# Altium footprint library CONN_W2B_JST.PcbLib: 168 footprints (part 10 of 11)
Each footprint in its own frame and in the unit in brackets; x right, y up, seen from the top. Pads: shape width x height; smd on the part's side, far side on the other; paste and mask are expansions set on the pad; w line width, h text height; cw(c..) or ccw(c..) is an arc to the next point about the centre after c.
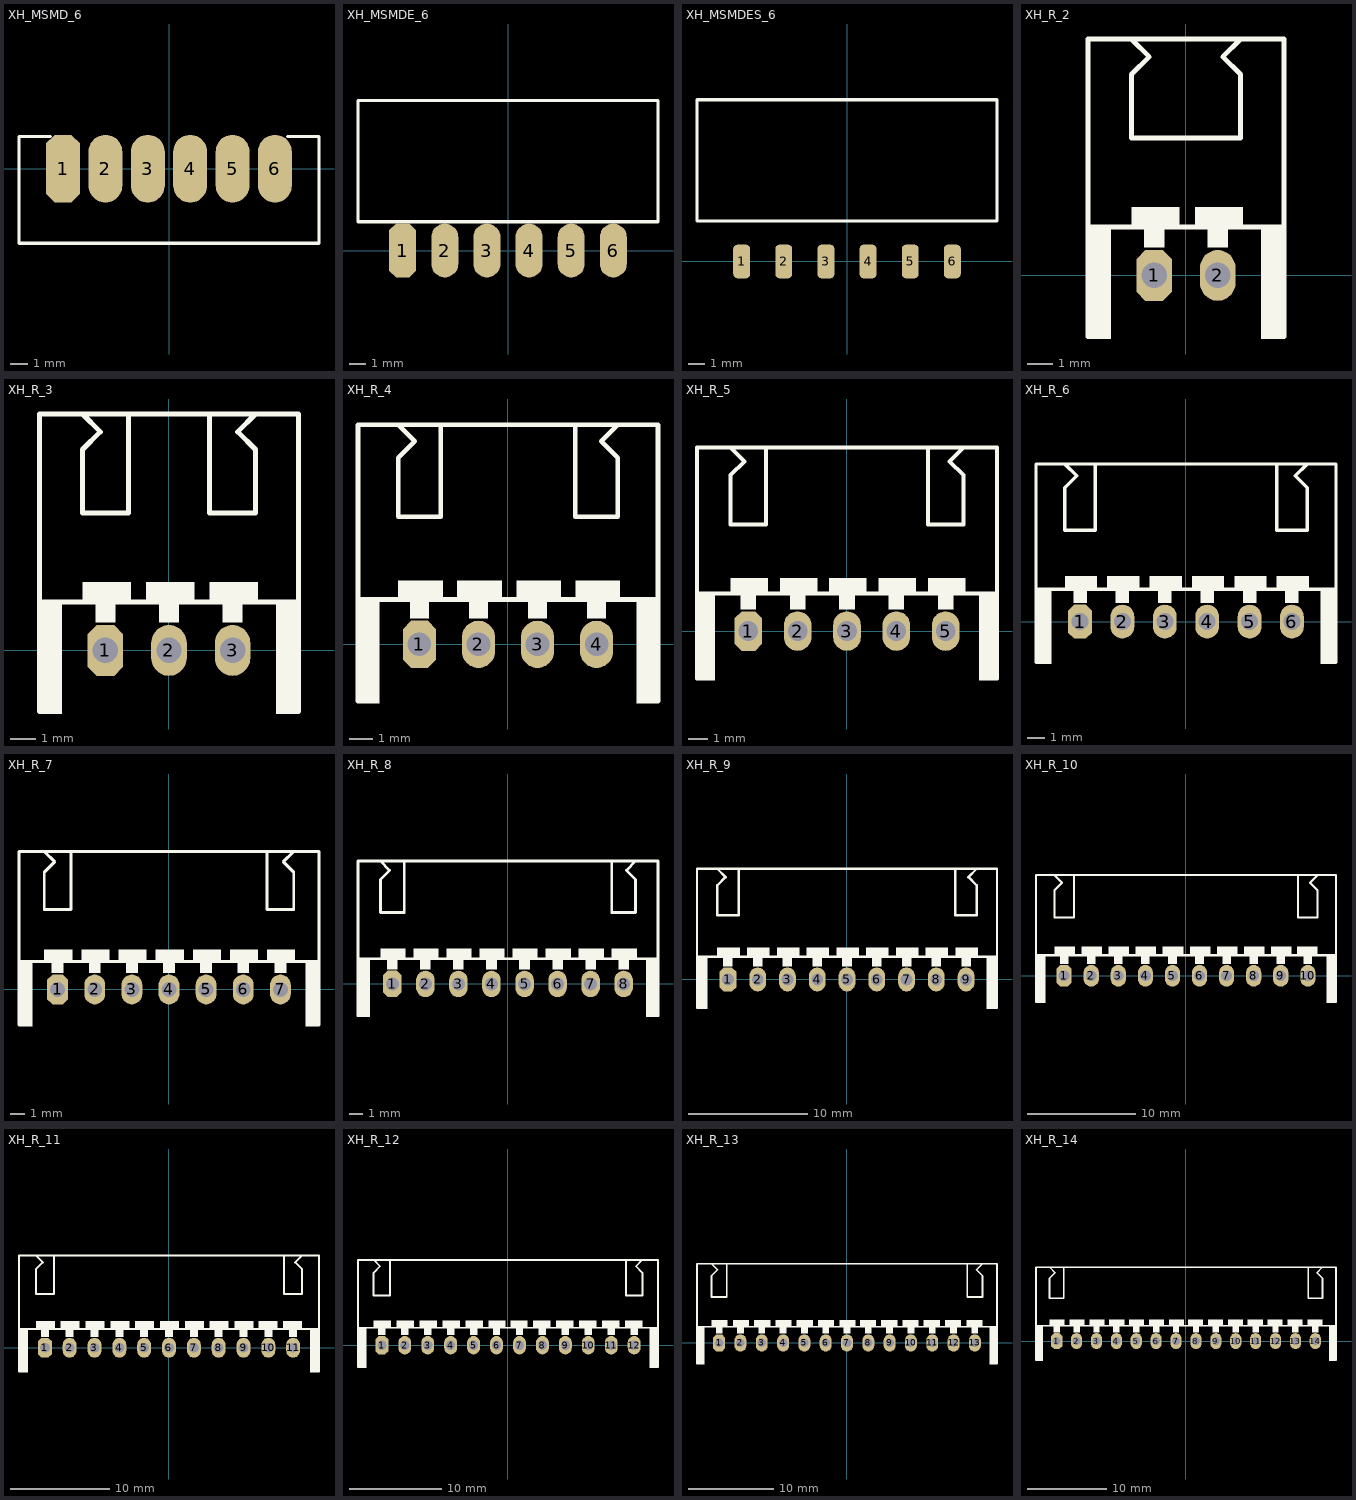
[diagram p9: the footprints below, top view; thin cyan lines are the x and y axes]

## XH_MSMD_6 [mm] "JST-SxB-XH-A pitch: 2.5mm, manual smd!"
pads (6):
  oct 2x4 smd: 1(-6.25,0)
  oval 2x4 smd: 2(-3.75,0) 3(-1.25,0) 4(1.25,0) 5(3.75,0) 6(6.25,0)
Top Overlay:
  lines w0.2: -7,1.9 -8.85,1.9 -8.85,-4.4 8.85,-4.4 8.85,1.9 7,1.9
3D body "S6B-XH-A.STEP": height 9.55, standoff -1.95, extent -8.7,-4.3 8.7,5.25

## XH_MSMDE_6 [mm] "JST-BxB-XH-A pitch: 2.5mm, 3A/250v, manual SMD EDGE !"
pads (6):
  oct 1.6x3.2 smd: 1(-6.25,0)
  oval 1.6x3.2 smd: 2(-3.75,0) 3(-1.25,0) 4(1.25,0) 5(3.75,0) 6(6.25,0)
Top Overlay:
  lines w0.2: -8.9,1.7 -8.9,8.9 8.9,8.9 8.9,1.7 -8.9,1.7
3D body "User Library-PW10-06-M white.step": height 3.7, standoff -2, extent -8.75,-1.5 8.75,8.8

## XH_MSMDES_6 [mm] "JST-BxB-XH-A pitch: 2.5mm, 3A/250v, manual SMD EDGE MOUNT small pads"
pads (6):
  rrect50% 1x2 smd: 1(-6.25,0) 2(-3.75,0) 3(-1.25,0) 4(1.25,0) 5(3.75,0) 6(6.25,0)
Top Overlay:
  lines w0.2: -8.9,2.4 8.9,2.4 8.9,9.6 -8.9,9.6 -8.9,2.4
3D body "User Library-PW10-06-M white.step": height 3.7, standoff -2, extent -8.75,-0.8 8.75,9.5

## XH_R_2 [mm] "JST-SxB-XH-A pitch: 2.5mm, 3A/250v, Righ Angle (Side Entry)"
pads (2):
  oct 1.4x2 hole 1: 1(-1.25,0)
  oval 1.4x2 hole 1: 2(1.25,0)
Top Overlay:
  rectangle: -3.85,-2.5 -2.95,1.9
  region: 3.85,1.9 2.95,1.9 2.95,-2.5 3.85,-2.5
  rectangle: -1.65,1.1 -0.85,1.9
  rectangle: 0.85,1.1 1.65,1.9
  rectangle: -2.15,1.9 -0.25,2.7
  rectangle: 0.35,1.9 2.25,2.7
  lines w0.2: -3.85,-2.4 -3.85,9.3 3.85,9.3 3.85,-2.4 ; -3.85,1.9 3.85,1.9 ; -2.15,9.3 -1.45,8.6 -2.15,7.9 ; 2.15,9.3 1.45,8.6 2.15,7.9 ; -2.15,7.9 -2.15,7.9 ; -2.15,7.9 -2.15,5.4 2.15,5.4 2.15,7.9 ; 2.15,7.9 2.15,7.9
3D body "User Library-S2B-XH.STEP": height 6.1, standoff -3.4, extent -3.7,-2.35 3.7,9.15

## XH_R_3 [mm] "JST-SxB-XH-A pitch: 2.5mm, 3A/250v, Righ Angle (Side Entry)"
pads (3):
  oct 1.4x2 hole 1: 1(-2.5,0)
  oval 1.4x2 hole 1: 2(0,0) 3(2.5,0)
Top Overlay:
  rectangle: 1.6,1.9 3.5,2.7
  rectangle: -0.9,1.9 1,2.7
  rectangle: -3.4,1.9 -1.5,2.7
  rectangle: 2.1,1.1 2.9,1.9
  rectangle: -0.4,1.1 0.4,1.9
  rectangle: -2.9,1.1 -2.1,1.9
  region: 5.1,1.9 4.2,1.9 4.2,-2.5 5.1,-2.5
  rectangle: -5.1,-2.5 -4.2,1.9
  lines w0.2: -5.1,-2.4 -5.1,9.3 5.1,9.3 5.1,-2.4 ; -5.1,1.9 5.1,1.9 ; -3.4,9.3 -2.7,8.6 -3.4,7.9 ; -1.6,9.3 -1.6,5.4 -3.4,5.4 -3.4,7.9 ; 1.6,9.3 1.6,5.4 3.4,5.4 3.4,7.9 ; 3.4,9.3 2.7,8.6 3.4,7.9 ; -3.4,7.9 -3.4,7.9 ; 3.4,7.9 3.4,7.9
3D body "User Library-S3B-XH.STEP": height 6.1, standoff -3.4, extent -4.95,-2.3 4.95,9.2

## XH_R_4 [mm] "JST-SxB-XH-A pitch: 2.5mm, 3A/250v, Righ Angle (Side Entry)"
pads (4):
  oct 1.4x2 hole 1: 1(-3.75,0)
  oval 1.4x2 hole 1: 2(-1.25,0) 3(1.25,0) 4(3.75,0)
Top Overlay:
  rectangle: -6.35,-2.5 -5.45,1.9
  region: 6.35,1.9 5.45,1.9 5.45,-2.5 6.35,-2.5
  rectangle: -4.15,1.1 -3.35,1.9
  rectangle: -1.65,1.1 -0.85,1.9
  rectangle: 0.85,1.1 1.65,1.9
  rectangle: 3.35,1.1 4.15,1.9
  rectangle: -4.65,1.9 -2.75,2.7
  rectangle: -2.15,1.9 -0.25,2.7
  rectangle: 0.35,1.9 2.25,2.7
  rectangle: 2.85,1.9 4.75,2.7
  lines w0.2: -6.35,-2.4 -6.35,9.3 6.35,9.3 6.35,-2.4 ; -6.35,1.9 6.35,1.9 ; -4.65,9.3 -3.95,8.6 -4.65,7.9 ; -2.85,9.3 -2.85,5.4 -4.65,5.4 -4.65,7.9 ; 2.85,9.3 2.85,5.4 4.65,5.4 4.65,7.9 ; 4.65,9.3 3.95,8.6 4.65,7.9 ; -4.65,7.9 -4.65,7.9 ; 4.65,7.9 4.65,7.9
3D body "User Library-S4B-XH.STEP": height 6.1, standoff -3.4, extent -6.2,-2.3 6.2,9.2

## XH_R_5 [mm] "JST-SxB-XH-A pitch: 2.5mm, 3A/250v, Righ Angle (Side Entry)"
pads (5):
  oct 1.4x2 hole 1: 1(-5,0)
  oval 1.4x2 hole 1: 2(-2.5,0) 3(0,0) 4(2.5,0) 5(5,0)
Top Overlay:
  rectangle: 4.1,1.9 6,2.7
  rectangle: 1.6,1.9 3.5,2.7
  rectangle: -0.9,1.9 1,2.7
  rectangle: -3.4,1.9 -1.5,2.7
  rectangle: -5.9,1.9 -4,2.7
  rectangle: 4.6,1.1 5.4,1.9
  rectangle: 2.1,1.1 2.9,1.9
  rectangle: -0.4,1.1 0.4,1.9
  rectangle: -2.9,1.1 -2.1,1.9
  rectangle: -5.4,1.1 -4.6,1.9
  region: 7.6,1.9 6.7,1.9 6.7,-2.5 7.6,-2.5
  rectangle: -7.6,-2.5 -6.7,1.9
  lines w0.2: -7.6,-2.4 -7.6,9.3 7.6,9.3 7.6,-2.4 ; -7.6,1.9 7.6,1.9 ; -5.9,9.3 -5.2,8.6 -5.9,7.9 ; -4.1,9.3 -4.1,5.4 -5.9,5.4 -5.9,7.9 ; 4.1,9.3 4.1,5.4 5.9,5.4 5.9,7.9 ; 5.9,9.3 5.2,8.6 5.9,7.9 ; -5.9,7.9 -5.9,7.9 ; 5.9,7.9 5.9,7.9
3D body "User Library-jst-s5b-xh-a.step": height 6.25, standoff -3.25, extent -7.45,-2.3 7.45,9.2

## XH_R_6 [mm] "JST-SxB-XH-A pitch: 2.5mm, 3A/250v, Righ Angle (Side Entry)"
pads (6):
  oct 1.4x2 hole 1: 1(-6.25,0)
  oval 1.4x2 hole 1: 2(-3.75,0) 3(-1.25,0) 4(1.25,0) 5(3.75,0) 6(6.25,0)
Top Overlay:
  rectangle: 5.85,1.1 6.65,1.9
  rectangle: 5.35,1.9 7.25,2.7
  rectangle: 2.85,1.9 4.75,2.7
  rectangle: 0.35,1.9 2.25,2.7
  rectangle: -2.15,1.9 -0.25,2.7
  rectangle: -4.65,1.9 -2.75,2.7
  rectangle: -7.15,1.9 -5.25,2.7
  rectangle: 3.35,1.1 4.15,1.9
  rectangle: 0.85,1.1 1.65,1.9
  rectangle: -1.65,1.1 -0.85,1.9
  rectangle: -4.15,1.1 -3.35,1.9
  rectangle: -6.65,1.1 -5.85,1.9
  region: 8.85,1.9 7.95,1.9 7.95,-2.5 8.85,-2.5
  rectangle: -8.85,-2.5 -7.95,1.9
  lines w0.2: -8.85,-2.4 -8.85,9.3 8.85,9.3 8.85,-2.4 ; -8.85,1.9 8.85,1.9 ; -7.15,9.3 -6.45,8.6 -7.15,7.9 ; -5.35,9.3 -5.35,5.4 -7.15,5.4 -7.15,7.9 ; 5.35,9.3 5.35,5.4 7.15,5.4 7.15,7.9 ; 7.15,9.3 6.45,8.6 7.15,7.9 ; -7.15,7.9 -7.15,7.9 ; 7.15,7.9 7.15,7.9
3D body "S6B-XH-A.STEP": height 6.15, standoff -3.4, extent -8.7,-2.3 8.7,9.2

## XH_R_7 [mm] "JST-SxB-XH-A pitch: 2.5mm, 3A/250v, Righ Angle (Side Entry)"
pads (7):
  oct 1.4x2 hole 1: 1(-7.5,0)
  oval 1.4x2 hole 1: 2(-5,0) 3(-2.5,0) 4(0,0) 5(2.5,0) 6(5,0) 7(7.5,0)
Top Overlay:
  rectangle: 7.1,1.1 7.9,1.9
  rectangle: 6.6,1.9 8.5,2.7
  region: 10.1,1.9 9.2,1.9 9.2,-2.5 10.1,-2.5
  rectangle: -10.1,-2.5 -9.2,1.9
  rectangle: -7.9,1.1 -7.1,1.9
  rectangle: -5.4,1.1 -4.6,1.9
  rectangle: -2.9,1.1 -2.1,1.9
  rectangle: -0.4,1.1 0.4,1.9
  rectangle: 2.1,1.1 2.9,1.9
  rectangle: -8.4,1.9 -6.5,2.7
  rectangle: -5.9,1.9 -4,2.7
  rectangle: -3.4,1.9 -1.5,2.7
  rectangle: -0.9,1.9 1,2.7
  rectangle: 1.6,1.9 3.5,2.7
  rectangle: 4.1,1.9 6,2.7
  rectangle: 4.6,1.1 5.4,1.9
  lines w0.2: -10.1,-2.4 -10.1,9.3 10.1,9.3 10.1,-2.4 ; -10.1,1.9 10.1,1.9 ; -8.4,9.3 -7.7,8.6 -8.4,7.9 ; -6.6,9.3 -6.6,5.4 -8.4,5.4 -8.4,7.9 ; 6.6,9.3 6.6,5.4 8.4,5.4 8.4,7.9 ; 8.4,9.3 7.7,8.6 8.4,7.9 ; -8.4,7.9 -8.4,7.9 ; 8.4,7.9 8.4,7.9
3D body "S7B-XH-A.STEP": height 6.15, standoff -3.4, extent -9.95,-2.3 9.95,9.2

## XH_R_8 [mm] "JST-SxB-XH-A pitch: 2.5mm, 3A/250v, Righ Angle (Side Entry)"
pads (8):
  oct 1.4x2 hole 1: 1(-8.75,0)
  oval 1.4x2 hole 1: 2(-6.25,0) 3(-3.75,0) 4(-1.25,0) 5(1.25,0) 6(3.75,0) 7(6.25,0) 8(8.75,0)
Top Overlay:
  rectangle: 3.35,1.1 4.15,1.9
  rectangle: 2.85,1.9 4.75,2.7
  rectangle: 0.35,1.9 2.25,2.7
  rectangle: -2.15,1.9 -0.25,2.7
  rectangle: -4.65,1.9 -2.75,2.7
  rectangle: -7.15,1.9 -5.25,2.7
  rectangle: -9.65,1.9 -7.75,2.7
  rectangle: 0.85,1.1 1.65,1.9
  rectangle: -1.65,1.1 -0.85,1.9
  rectangle: -4.15,1.1 -3.35,1.9
  rectangle: -6.65,1.1 -5.85,1.9
  rectangle: -9.15,1.1 -8.35,1.9
  rectangle: -11.35,-2.5 -10.45,1.9
  region: 11.35,1.9 10.45,1.9 10.45,-2.5 11.35,-2.5
  rectangle: 5.35,1.9 7.25,2.7
  rectangle: 5.85,1.1 6.65,1.9
  rectangle: 7.85,1.9 9.75,2.7
  rectangle: 8.35,1.1 9.15,1.9
  lines w0.2: -11.35,-2.4 -11.35,9.3 11.35,9.3 11.35,-2.4 ; -11.35,1.9 11.35,1.9 ; -9.65,9.3 -8.95,8.6 -9.65,7.9 ; -7.85,9.3 -7.85,5.4 -9.65,5.4 -9.65,7.9 ; 7.85,9.3 7.85,5.4 9.65,5.4 9.65,7.9 ; 9.65,9.3 8.95,8.6 9.65,7.9 ; -9.65,7.9 -9.65,7.9 ; 9.65,7.9 9.65,7.9
3D body "S8B-XH-A.STEP": height 6.1, standoff -3.4, extent -11.2,-2.3 11.2,9.2

## XH_R_9 [mm] "JST-SxB-XH-A pitch: 2.5mm, 3A/250v, Righ Angle (Side Entry)"
pads (9):
  oct 1.4x2 hole 1: 1(-10,0)
  oval 1.4x2 hole 1: 2(-7.5,0) 3(-5,0) 4(-2.5,0) 5(0,0) 6(2.5,0) 7(5,0) 8(7.5,0) 9(10,0)
Top Overlay:
  rectangle: 2.1,1.1 2.9,1.9
  rectangle: 1.6,1.9 3.5,2.7
  rectangle: -0.9,1.9 1,2.7
  rectangle: -3.4,1.9 -1.5,2.7
  rectangle: -5.9,1.9 -4,2.7
  rectangle: -8.4,1.9 -6.5,2.7
  rectangle: -10.9,1.9 -9,2.7
  rectangle: -0.4,1.1 0.4,1.9
  rectangle: -2.9,1.1 -2.1,1.9
  rectangle: -5.4,1.1 -4.6,1.9
  rectangle: -7.9,1.1 -7.1,1.9
  rectangle: -10.4,1.1 -9.6,1.9
  rectangle: -12.6,-2.5 -11.7,1.9
  region: 12.6,1.9 11.7,1.9 11.7,-2.5 12.6,-2.5
  rectangle: 4.1,1.9 6,2.7
  rectangle: 4.6,1.1 5.4,1.9
  rectangle: 6.6,1.9 8.5,2.7
  rectangle: 7.1,1.1 7.9,1.9
  rectangle: 9.1,1.9 11,2.7
  rectangle: 9.6,1.1 10.4,1.9
  lines w0.2: -12.6,-2.4 -12.6,9.3 12.6,9.3 12.6,-2.4 ; -12.6,1.9 12.6,1.9 ; -10.9,9.3 -10.2,8.6 -10.9,7.9 ; -9.1,9.3 -9.1,5.4 -10.9,5.4 -10.9,7.9 ; 9.1,9.3 9.1,5.4 10.9,5.4 10.9,7.9 ; 10.9,9.3 10.2,8.6 10.9,7.9 ; -10.9,7.9 -10.9,7.9 ; 10.9,7.9 10.9,7.9
3D body "S9B-XH-A.STEP": height 6.1, standoff -3.4, extent -12.45,-2.3 12.45,9.2

## XH_R_10 [mm] "JST-SxB-XH-A pitch: 2.5mm, 3A/250v, Righ Angle (Side Entry)"
pads (10):
  oct 1.4x2 hole 1: 1(-11.25,0)
  oval 1.4x2 hole 1: 2(-8.75,0) 3(-6.25,0) 4(-3.75,0) 5(-1.25,0) 6(1.25,0) 7(3.75,0) 8(6.25,0) 9(8.75,0) 10(11.25,0)
Top Overlay:
  rectangle: 0.85,1.1 1.65,1.9
  rectangle: 0.35,1.9 2.25,2.7
  rectangle: -2.15,1.9 -0.25,2.7
  rectangle: -4.65,1.9 -2.75,2.7
  rectangle: -7.15,1.9 -5.25,2.7
  rectangle: -9.65,1.9 -7.75,2.7
  rectangle: -12.15,1.9 -10.25,2.7
  rectangle: -1.65,1.1 -0.85,1.9
  rectangle: -4.15,1.1 -3.35,1.9
  rectangle: -6.65,1.1 -5.85,1.9
  rectangle: -9.15,1.1 -8.35,1.9
  rectangle: -11.65,1.1 -10.85,1.9
  rectangle: -13.85,-2.5 -12.95,1.9
  region: 13.85,1.9 12.95,1.9 12.95,-2.5 13.85,-2.5
  region: 11.65,1.9 10.85,1.9 10.85,1.1 11.65,1.1
  region: 12.15,2.7 10.25,2.7 10.25,1.9 12.15,1.9
  rectangle: 2.85,1.9 4.75,2.7
  rectangle: 3.35,1.1 4.15,1.9
  rectangle: 5.35,1.9 7.25,2.7
  rectangle: 5.85,1.1 6.65,1.9
  rectangle: 7.85,1.9 9.75,2.7
  rectangle: 8.35,1.1 9.15,1.9
  lines w0.2: -13.85,-2.4 -13.85,9.3 13.85,9.3 13.85,-2.4 ; -13.85,1.9 13.85,1.9 ; -12.15,9.3 -11.45,8.6 -12.15,7.9 ; -10.35,9.3 -10.35,5.4 -12.15,5.4 -12.15,7.9 ; 10.35,9.3 10.35,5.4 12.15,5.4 12.15,7.9 ; 12.15,9.3 11.45,8.6 12.15,7.9 ; -12.15,7.9 -12.15,7.9 ; 12.15,7.9 12.15,7.9
3D body "S10B-XH-A.STEP": height 6.15, standoff -3.4, extent -13.7,-2.3 13.7,9.2

## XH_R_11 [mm] "JST-SxB-XH-A pitch: 2.5mm, 3A/250v, Righ Angle (Side Entry)"
pads (11):
  oct 1.4x2 hole 1: 1(-12.5,0)
  oval 1.4x2 hole 1: 2(-10,0) 3(-7.5,0) 4(-5,0) 5(-2.5,0) 6(0,0) 7(2.5,0) 8(5,0) 9(7.5,0) 10(10,0) 11(12.5,0)
Top Overlay:
  region: 12.9,1.9 12.1,1.9 12.1,1.1 12.9,1.1
  region: 13.4,2.7 11.5,2.7 11.5,1.9 13.4,1.9
  rectangle: -0.4,1.1 0.4,1.9
  rectangle: -0.9,1.9 1,2.7
  rectangle: -3.4,1.9 -1.5,2.7
  rectangle: -5.9,1.9 -4,2.7
  rectangle: -8.4,1.9 -6.5,2.7
  rectangle: -10.9,1.9 -9,2.7
  rectangle: -13.4,1.9 -11.5,2.7
  rectangle: -2.9,1.1 -2.1,1.9
  rectangle: -5.4,1.1 -4.6,1.9
  rectangle: -7.9,1.1 -7.1,1.9
  rectangle: -10.4,1.1 -9.6,1.9
  rectangle: -12.9,1.1 -12.1,1.9
  rectangle: -15.1,-2.5 -14.2,1.9
  region: 15.1,1.9 14.2,1.9 14.2,-2.5 15.1,-2.5
  region: 10.4,1.9 9.6,1.9 9.6,1.1 10.4,1.1
  region: 10.9,2.7 9,2.7 9,1.9 10.9,1.9
  rectangle: 1.6,1.9 3.5,2.7
  rectangle: 2.1,1.1 2.9,1.9
  rectangle: 4.1,1.9 6,2.7
  rectangle: 4.6,1.1 5.4,1.9
  rectangle: 6.6,1.9 8.5,2.7
  rectangle: 7.1,1.1 7.9,1.9
  lines w0.2: -15.1,-2.4 -15.1,9.3 15.1,9.3 15.1,-2.4 ; -15.1,1.9 15.1,1.9 ; -13.4,9.3 -12.7,8.6 -13.4,7.9 ; -11.6,9.3 -11.6,5.4 -13.4,5.4 -13.4,7.9 ; 11.6,9.3 11.6,5.4 13.4,5.4 13.4,7.9 ; 13.4,9.3 12.7,8.6 13.4,7.9 ; -13.4,7.9 -13.4,7.9 ; 13.4,7.9 13.4,7.9
3D body "S11B-XH-A.STEP": height 6.1, standoff -3.4, extent -14.95,-2.3 14.95,9.2

## XH_R_12 [mm] "JST-SxB-XH-A pitch: 2.5mm, 3A/250v, Righ Angle (Side Entry)"
pads (12):
  oct 1.4x2 hole 1: 1(-13.75,0)
  oval 1.4x2 hole 1: 2(-11.25,0) 3(-8.75,0) 4(-6.25,0) 5(-3.75,0) 6(-1.25,0) 7(1.25,0) 8(3.75,0) 9(6.25,0) 10(8.75,0) 11(11.25,0) 12(13.75,0)
Top Overlay:
  region: 14.15,1.9 13.35,1.9 13.35,1.1 14.15,1.1
  region: 11.65,1.9 10.85,1.9 10.85,1.1 11.65,1.1
  region: 9.15,1.9 8.35,1.9 8.35,1.1 9.15,1.1
  region: 6.65,1.9 5.85,1.9 5.85,1.1 6.65,1.1
  region: 4.15,1.9 3.35,1.9 3.35,1.1 4.15,1.1
  region: 14.65,2.7 12.75,2.7 12.75,1.9 14.65,1.9
  region: 12.15,2.7 10.25,2.7 10.25,1.9 12.15,1.9
  region: 9.65,2.7 7.75,2.7 7.75,1.9 9.65,1.9
  region: 7.15,2.7 5.25,2.7 5.25,1.9 7.15,1.9
  region: 4.65,2.7 2.75,2.7 2.75,1.9 4.65,1.9
  region: 2.15,2.7 0.25,2.7 0.25,1.9 2.15,1.9
  region: 1.65,1.9 0.85,1.9 0.85,1.1 1.65,1.1
  region: 16.35,1.9 15.45,1.9 15.45,-2.5 16.35,-2.5
  rectangle: -16.35,-2.5 -15.45,1.9
  rectangle: -14.15,1.1 -13.35,1.9
  rectangle: -11.65,1.1 -10.85,1.9
  rectangle: -9.15,1.1 -8.35,1.9
  rectangle: -6.65,1.1 -5.85,1.9
  rectangle: -4.15,1.1 -3.35,1.9
  rectangle: -14.65,1.9 -12.75,2.7
  rectangle: -12.15,1.9 -10.25,2.7
  rectangle: -9.65,1.9 -7.75,2.7
  rectangle: -7.15,1.9 -5.25,2.7
  rectangle: -4.65,1.9 -2.75,2.7
  rectangle: -2.15,1.9 -0.25,2.7
  rectangle: -1.65,1.1 -0.85,1.9
  lines w0.2: -16.35,-2.4 -16.35,9.3 16.35,9.3 16.35,-2.4 ; -16.35,1.9 16.35,1.9 ; -14.65,9.3 -13.95,8.6 -14.65,7.9 ; -12.85,9.3 -12.85,5.4 -14.65,5.4 -14.65,7.9 ; 12.85,9.3 12.85,5.4 14.65,5.4 14.65,7.9 ; 14.65,9.3 13.95,8.6 14.65,7.9 ; -14.65,7.9 -14.65,7.9 ; 14.65,7.9 14.65,7.9
3D body "S12B-XH-A.STEP": height 6.1, standoff -3.4, extent -16.2,-2.3 16.2,9.2

## XH_R_13 [mm] "JST-SxB-XH-A pitch: 2.5mm, 3A/250v, Righ Angle (Side Entry)"
pads (13):
  oct 1.4x2 hole 1: 1(-15,0)
  oval 1.4x2 hole 1: 2(-12.5,0) 3(-10,0) 4(-7.5,0) 5(-5,0) 6(-2.5,0) 7(0,0) 8(2.5,0) 9(5,0) 10(7.5,0) 11(10,0) 12(12.5,0) 13(15,0)
Top Overlay:
  region: 15.4,1.9 14.6,1.9 14.6,1.1 15.4,1.1
  region: 12.9,1.9 12.1,1.9 12.1,1.1 12.9,1.1
  region: 10.4,1.9 9.6,1.9 9.6,1.1 10.4,1.1
  region: 7.9,1.9 7.1,1.9 7.1,1.1 7.9,1.1
  region: 5.4,1.9 4.6,1.9 4.6,1.1 5.4,1.1
  region: 15.9,2.7 14,2.7 14,1.9 15.9,1.9
  region: 13.4,2.7 11.5,2.7 11.5,1.9 13.4,1.9
  region: 10.9,2.7 9,2.7 9,1.9 10.9,1.9
  region: 8.4,2.7 6.5,2.7 6.5,1.9 8.4,1.9
  region: 5.9,2.7 4,2.7 4,1.9 5.9,1.9
  region: 3.4,2.7 1.5,2.7 1.5,1.9 3.4,1.9
  region: 2.9,1.9 2.1,1.9 2.1,1.1 2.9,1.1
  rectangle: -0.4,1.1 0.4,1.9
  rectangle: -0.9,1.9 1,2.7
  region: 17.6,1.9 16.7,1.9 16.7,-2.5 17.6,-2.5
  rectangle: -17.6,-2.5 -16.7,1.9
  rectangle: -15.4,1.1 -14.6,1.9
  rectangle: -12.9,1.1 -12.1,1.9
  rectangle: -10.4,1.1 -9.6,1.9
  rectangle: -7.9,1.1 -7.1,1.9
  rectangle: -5.4,1.1 -4.6,1.9
  rectangle: -15.9,1.9 -14,2.7
  rectangle: -13.4,1.9 -11.5,2.7
  rectangle: -10.9,1.9 -9,2.7
  rectangle: -8.4,1.9 -6.5,2.7
  rectangle: -5.9,1.9 -4,2.7
  rectangle: -3.4,1.9 -1.5,2.7
  rectangle: -2.9,1.1 -2.1,1.9
  lines w0.2: -17.6,-2.4 -17.6,9.3 17.6,9.3 17.6,-2.4 ; -17.6,1.9 17.6,1.9 ; -15.9,9.3 -15.2,8.6 -15.9,7.9 ; -14.1,9.3 -14.1,5.4 -15.9,5.4 -15.9,7.9 ; 14.1,9.3 14.1,5.4 15.9,5.4 15.9,7.9 ; 15.9,9.3 15.2,8.6 15.9,7.9 ; -15.9,7.9 -15.9,7.9 ; 15.9,7.9 15.9,7.9
3D body "S13B-XH-A.STEP": height 6.1, standoff -3.4, extent -17.45,-2.3 17.45,9.2

## XH_R_14 [mm] "JST-SxB-XH-A pitch: 2.5mm, 3A/250v, Righ Angle (Side Entry)"
pads (14):
  oct 1.4x2 hole 1: 1(-16.25,0)
  oval 1.4x2 hole 1: 2(-13.75,0) 3(-11.25,0) 4(-8.75,0) 5(-6.25,0) 6(-3.75,0) 7(-1.25,0) 8(1.25,0) 9(3.75,0) 10(6.25,0) 11(8.75,0) 12(11.25,0) 13(13.75,0) 14(16.25,0)
Top Overlay:
  region: 4.15,1.9 3.35,1.9 3.35,1.1 4.15,1.1
  region: 4.65,2.7 2.75,2.7 2.75,1.9 4.65,1.9
  region: 7.15,2.7 5.25,2.7 5.25,1.9 7.15,1.9
  region: 9.65,2.7 7.75,2.7 7.75,1.9 9.65,1.9
  region: 12.15,2.7 10.25,2.7 10.25,1.9 12.15,1.9
  region: 14.65,2.7 12.75,2.7 12.75,1.9 14.65,1.9
  region: 17.15,2.7 15.25,2.7 15.25,1.9 17.15,1.9
  region: 6.65,1.9 5.85,1.9 5.85,1.1 6.65,1.1
  region: 9.15,1.9 8.35,1.9 8.35,1.1 9.15,1.1
  region: 11.65,1.9 10.85,1.9 10.85,1.1 11.65,1.1
  region: 14.15,1.9 13.35,1.9 13.35,1.1 14.15,1.1
  region: 16.65,1.9 15.85,1.9 15.85,1.1 16.65,1.1
  region: 2.15,2.7 0.25,2.7 0.25,1.9 2.15,1.9
  region: 1.65,1.9 0.85,1.9 0.85,1.1 1.65,1.1
  rectangle: -4.15,1.1 -3.35,1.9
  rectangle: -4.65,1.9 -2.75,2.7
  rectangle: -7.15,1.9 -5.25,2.7
  rectangle: -9.65,1.9 -7.75,2.7
  rectangle: -12.15,1.9 -10.25,2.7
  rectangle: -14.65,1.9 -12.75,2.7
  rectangle: -17.15,1.9 -15.25,2.7
  rectangle: -6.65,1.1 -5.85,1.9
  rectangle: -9.15,1.1 -8.35,1.9
  rectangle: -11.65,1.1 -10.85,1.9
  rectangle: -14.15,1.1 -13.35,1.9
  rectangle: -16.65,1.1 -15.85,1.9
  rectangle: -18.85,-2.5 -17.95,1.9
  region: 18.85,1.9 17.95,1.9 17.95,-2.5 18.85,-2.5
  rectangle: -2.15,1.9 -0.25,2.7
  rectangle: -1.65,1.1 -0.85,1.9
  lines w0.2: -18.85,-2.4 -18.85,9.3 18.85,9.3 18.85,-2.4 ; -18.85,1.9 18.85,1.9 ; -17.15,9.3 -16.45,8.6 -17.15,7.9 ; -15.35,9.3 -15.35,5.4 -17.15,5.4 -17.15,7.9 ; 15.35,9.3 15.35,5.4 17.15,5.4 17.15,7.9 ; 17.15,9.3 16.45,8.6 17.15,7.9 ; -17.15,7.9 -17.15,7.9 ; 17.15,7.9 17.15,7.9
3D body "S14B-XH-A.STEP": height 6.1, standoff -3.4, extent -18.7,-2.3 18.7,9.2